# Altium integrated library WS-TASL_rev15a.intlib: 4 symbols
Pins are listed as number, name and electrical type; pins without a type are passive.

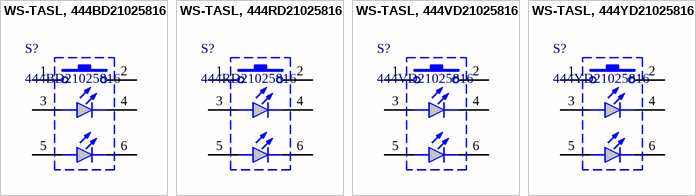
[diagram p0: symbols WS-TASL, 444BD21025816 to WS-TASL, 444YD21025816]

## WS-TASL, 444BD21025816
designator S?, comment 444BD21025816
WS-TASL 6.8x4.5 mm SMD illuminated; Manufacturer: Wurth Elektronik; partNo: 444BD21025816; ComponentLink1Description: Manufacturer; ComponentLink1URL: http://www.we-online.de; Created by: Baojun Chen; Created Date: Dec.2015; ComponentLink2Description: Datasheet; ComponentLink2URL: http://katalog.we-online.de/em/datasheet/444xx21025816.pdf
footprint 444xx21025816 (8*4.5mm vertical type, SMD, height 2.5mm, blue double color LED, T&R)
pins: 1, 2, 3, 4, 5, 6

## WS-TASL, 444RD21025816
designator S?, comment 444RD21025816
WS-TASL 6.8x4.5 mm SMD illuminated; Manufacturer: Wurth Elektronik; partNo: 444RD21025816; ComponentLink1Description: Manufacturer; ComponentLink1URL: http://www.we-online.de; Created by: Baojun Chen; Created Date: Dec.2015; ComponentLink2Description: Datasheet; ComponentLink2URL: http://katalog.we-online.de/em/datasheet/444xx21025816.pdf
footprint 444xx21025816 (8*4.5mm vertical type, SMD, height 2.5mm, blue double color LED, T&R)
pins: 1, 2, 3, 4, 5, 6

## WS-TASL, 444VD21025816
designator S?, comment 444VD21025816
WS-TASL 6.8x4.5 mm SMD illuminated; Manufacturer: Wurth Elektronik; partNo: 444VD21025816; ComponentLink1Description: Manufacturer; ComponentLink1URL: http://www.we-online.de; Created by: Baojun Chen; Created Date: Dec.2015; ComponentLink2Description: Datasheet; ComponentLink2URL: http://katalog.we-online.de/em/datasheet/444xx21025816.pdf
footprint 444xx21025816 (8*4.5mm vertical type, SMD, height 2.5mm, blue double color LED, T&R)
pins: 1, 2, 3, 4, 5, 6

## WS-TASL, 444YD21025816
designator S?, comment 444YD21025816
WS-TASL 6.8x4.5 mm SMD illuminated; Manufacturer: Wurth Elektronik; partNo: 444YD21025816; ComponentLink1Description: Manufacturer; ComponentLink1URL: http://www.we-online.de; Created by: Baojun Chen; Created Date: Dec.2015; ComponentLink2Description: Datasheet; ComponentLink2URL: http://katalog.we-online.de/em/datasheet/444xx21025816.pdf
footprint 444xx21025816 (8*4.5mm vertical type, SMD, height 2.5mm, blue double color LED, T&R)
pins: 1, 2, 3, 4, 5, 6